# Altium schematic symbol library FPGA_Xilinx_Virtex7.SchLib: 34 symbols (part 4 of 26)
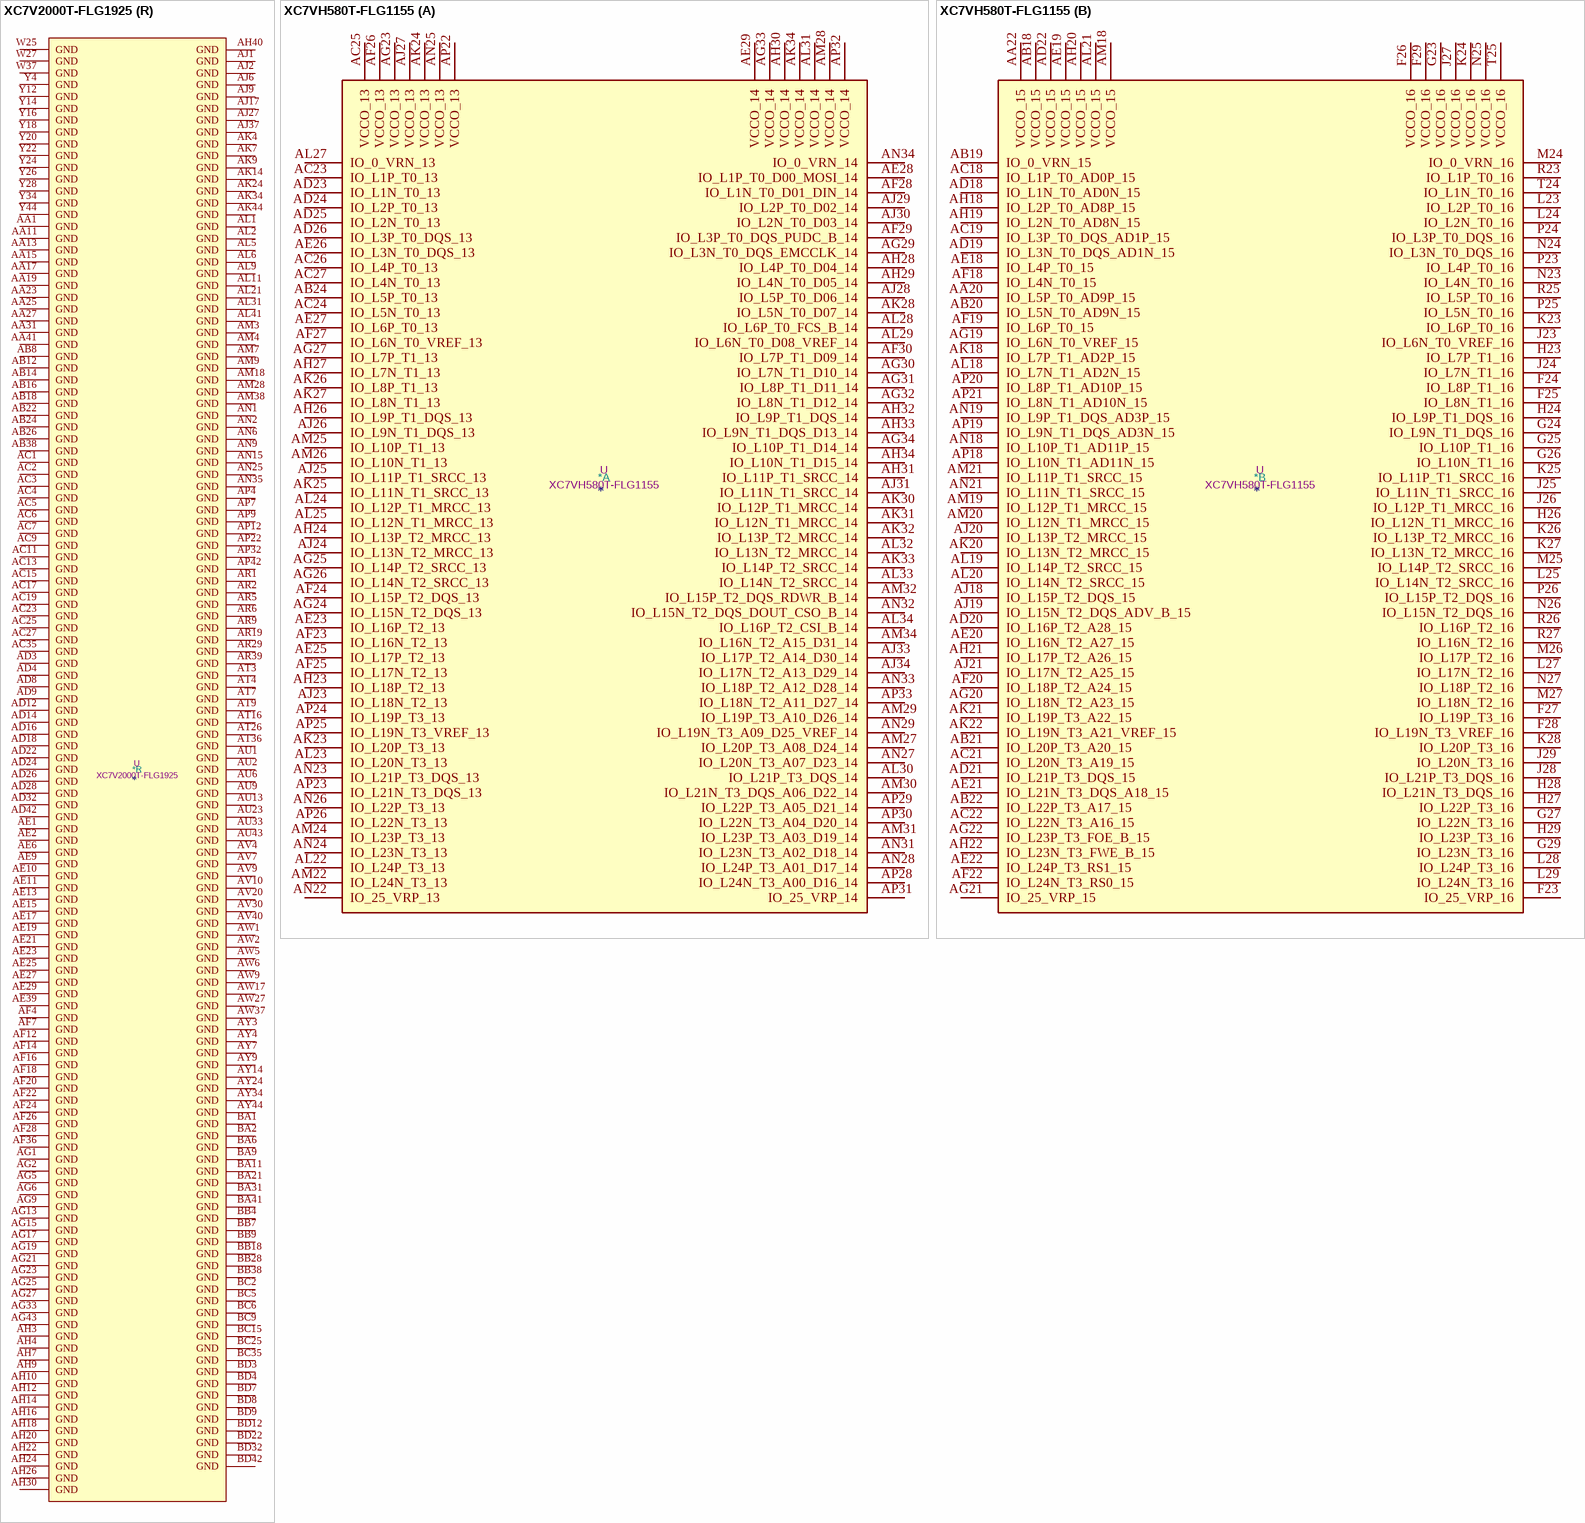
[diagram p175: symbols XC7V2000T-FLG1925 to XC7VH580T-FLG1155]

## XC7V2000T-FLG1925
designator *  value XC7V2000T-FLG1925  Reference: U
Virtex 7 T 2000 XC7V2000T-FLG1925; ki_keywords: FPGA; Description_: Virtex 7 T 2000 XC7V2000T-FLG1925
part A pins: AN34 IO_0_VRN_12, AN36 IO_L6P_T0_12, AN37 IO_L2P_T0_12, AN38 IO_L2N_T0_12, AN39 IO_L7P_T1_12, AN40 VCCO_12, AN41 IO_L9P_T1_DQS_12, AP34 IO_L3P_T0_DQS_12, AP35 IO_L3N_T0_DQS_12, AP36 IO_L6N_T0_VREF_12, AP37 VCCO_12, AP38 IO_L4P_T0_12, AP39 IO_L4N_T0_12, AP40 IO_L7N_T1_12, AP41 IO_L9N_T1_DQS_12, AP43 IO_L8P_T1_12, AP44 IO_L8N_T1_12, AR34 VCCO_12, AR35 IO_L5P_T0_12, AR36 IO_L5N_T0_12, AR37 IO_L1P_T0_12, AR38 IO_L1N_T0_12, AR40 IO_L11P_T1_SRCC_12, AR41 IO_L11N_T1_SRCC_12, AR42 IO_L12P_T1_MRCC_12, AR43 IO_L10P_T1_12, AR44 VCCO_12, AT34 IO_25_VRP_12, AT35 IO_L20P_T3_12, AT37 IO_L19P_T3_12, AT38 IO_L19N_T3_VREF_12, AT39 IO_L14P_T2_SRCC_12, AT40 IO_L14N_T2_SRCC_12, AT41 VCCO_12, AT42 IO_L12N_T1_MRCC_12, AT43 IO_L10N_T1_12, AT44 IO_L16P_T2_12, AU34 IO_L22P_T3_12, AU35 IO_L20N_T3_12, AU36 IO_L21P_T3_DQS_12, AU37 IO_L21N_T3_DQS_12, AU38 VCCO_12, AU39 IO_L13P_T2_MRCC_12, AU40 IO_L13N_T2_MRCC_12, AU41 IO_L15P_T2_DQS_12, AU42 IO_L17P_T2_12, AU44 IO_L16N_T2_12, AV34 IO_L22N_T3_12, AV35 VCCO_12, AV36 IO_L24P_T3_12, AV37 IO_L24N_T3_12, AV38 IO_L23P_T3_12, AV39 IO_L23N_T3_12, AV41 IO_L15N_T2_DQS_12, AV42 IO_L17N_T2_12, AV43 IO_L18P_T2_12, AV44 IO_L18N_T2_12, AW34 IO_25_VRP_11, AW35 IO_L20P_T3_11, AW36 IO_0_VRN_11, AW38 IO_L15P_T2_DQS_11, AW39 IO_L15N_T2_DQS_11, AW40 IO_L1P_T0_11, AW41 IO_L1N_T0_11, AW42 VCCO_11, AW43 IO_L3P_T0_DQS_11, AW44 IO_L3N_T0_DQS_11, AY35 IO_L20N_T3_11, AY36 IO_L18P_T2_11, AY37 IO_L18N_T2_11, AY38 IO_L13P_T2_MRCC_11, AY39 VCCO_11, AY40 IO_L12P_T1_MRCC_11, AY41 IO_L5P_T0_11, AY42 IO_L5N_T0_11, AY43 IO_L2P_T0_11, BA34 IO_L19P_T3_11, BA35 IO_L22P_T3_11, BA36 VCCO_11, BA37 IO_L14P_T2_SRCC_11, BA38 IO_L14N_T2_SRCC_11, BA39 IO_L13N_T2_MRCC_11, BA40 IO_L12N_T1_MRCC_11, BA42 IO_L6P_T0_11, BA43 IO_L2N_T0_11, BA44 IO_L4P_T0_11, BB34 IO_L19N_T3_VREF_11, BB35 IO_L22N_T3_11, BB36 IO_L24P_T3_11, BB37 IO_L16P_T2_11, BB39 IO_L11P_T1_SRCC_11, BB40 IO_L11N_T1_SRCC_11, BB41 IO_L7P_T1_11, BB42 IO_L6N_T0_VREF_11, BB43 VCCO_11, BB44 IO_L4N_T0_11, BC34 IO_L23P_T3_11, BC36 IO_L24N_T3_11, BC37 IO_L16N_T2_11, BC38 IO_L17P_T2_11, BC39 IO_L10P_T1_11, BC40 VCCO_11, BC41 IO_L7N_T1_11, BC42 IO_L9P_T1_DQS_11, BC43 IO_L9N_T1_DQS_11, BD34 IO_L23N_T3_11, BD35 IO_L21P_T3_DQS_11, BD36 IO_L21N_T3_DQS_11, BD37 VCCO_11, BD38 IO_L17N_T2_11, BD39 IO_L10N_T1_11, BD40 IO_L8P_T1_11, BD41 IO_L8N_T1_11
part B pins: AD41 IO_L13P_T2_MRCC_14, AD43 IO_L15P_T2_DQS_RDWR_B_14, AD44 IO_L15N_T2_DQS_DOUT_CSO_B_14, AE30 IO_L20P_T3_A08_D24_14, AE31 IO_L20N_T3_A07_D23_14, AE32 IO_L4P_T0_D04_14, AE33 IO_L4N_T0_D05_14, AE34 VCCO_14, AE35 IO_L6P_T0_FCS_B_14, AE36 IO_0_VRN_14, AE37 IO_L8P_T1_D11_14, AE38 IO_L8N_T1_D12_14, AE40 IO_L12P_T1_MRCC_14, AE41 IO_L13N_T2_MRCC_14, AE42 IO_L14P_T2_SRCC_14, AE43 IO_L17P_T2_A14_D30_14, AE44 VCCO_14, AF29 IO_L22P_T3_A05_D21_14, AF30 IO_L22N_T3_A04_D20_14, AF31 VCCO_14, AF32 IO_L5P_T0_D06_14, AF33 IO_L1P_T0_D00_MOSI_14, AF34 IO_L1N_T0_D01_DIN_14, AF35 IO_L6N_T0_D08_VREF_14, AF37 IO_L10P_T1_D14_14, AF38 IO_L10N_T1_D15_14, AF39 IO_L11P_T1_SRCC_14, AF40 IO_L12N_T1_MRCC_14, AF41 VCCO_14, AF42 IO_L14N_T2_SRCC_14, AF43 IO_L17N_T2_A13_D29_14, AF44 IO_L18P_T2_A12_D28_14, AG29 IO_L19P_T3_A10_D26_14, AG30 IO_L19N_T3_A09_D25_VREF_14, AG31 IO_L24P_T3_A01_D17_14, AG32 IO_L5N_T0_D07_14, AG34 IO_L2P_T0_D02_14, AG35 IO_L2N_T0_D03_14, AG36 IO_L3P_T0_DQS_PUDC_B_14, AG37 IO_L3N_T0_DQS_EMCCLK_14, AG38 VCCO_14, AG39 IO_L9P_T1_DQS_14, AG40 IO_L11N_T1_SRCC_14, AG41 IO_L7P_T1_D09_14, AG42 IO_L16P_T2_CSI_B_14, AG44 IO_L18N_T2_A11_D27_14, AH28 IO_L21P_T3_DQS_14, AH29 IO_L21N_T3_DQS_A06_D22_14, AH31 IO_L24N_T3_A00_D16_14, AH32 IO_L23P_T3_13, AH33 IO_L23N_T3_13, AH34 IO_0_VRN_13, AH35 VCCO_13, AH36 IO_L7P_T1_13, AH37 IO_L8P_T1_13, AH38 IO_L8N_T1_13, AH39 IO_L9N_T1_DQS_D13_14, AH41 IO_L7N_T1_D10_14, AH42 IO_L16N_T2_A15_D31_14, AH43 IO_L2P_T0_13, AH44 IO_L2N_T0_13, AJ28 IO_25_VRP_14, AJ29 IO_L23P_T3_A03_D19_14, AJ30 IO_L23N_T3_A02_D18_14, AJ31 IO_25_VRP_13, AJ32 VCCO_13, AJ33 IO_L19P_T3_13, AJ34 IO_L19N_T3_VREF_13, AJ35 IO_L20P_T3_13, AJ36 IO_L7N_T1_13, AJ38 IO_L10P_T1_13, AJ39 IO_L6P_T0_13, AJ40 IO_L6N_T0_VREF_13, AJ41 IO_L1P_T0_13, AJ42 VCCO_13, AJ43 IO_L4P_T0_13, AJ44 IO_L4N_T0_13, AK29 VCCO_14, AK33 IO_L21P_T3_DQS_13, AK35 IO_L20N_T3_13, AK36 IO_L12P_T1_MRCC_13, AK37 IO_L12N_T1_MRCC_13, AK38 IO_L10N_T1_13, AK39 VCCO_13, AK40 IO_L5P_T0_13, AK41 IO_L1N_T0_13, AK42 IO_L3P_T0_DQS_13, AK43 IO_L3N_T0_DQS_13, AL33 IO_L21N_T3_DQS_13, AL34 IO_L22P_T3_13, AL35 IO_L24P_T3_13, AL36 VCCO_13, AL37 IO_L11P_T1_SRCC_13, AL38 IO_L11N_T1_SRCC_13, AL39 IO_L14P_T2_SRCC_13, AL40 IO_L5N_T0_13, AL42 IO_L16P_T2_13, AL43 IO_L16N_T2_13, AL44 IO_L18P_T2_13, AM34 IO_L22N_T3_13, AM35 IO_L24N_T3_13, AM36 IO_L9P_T1_DQS_13, AM37 IO_L9N_T1_DQS_13, AM39 IO_L14N_T2_SRCC_13, AM40 IO_L13P_T2_MRCC_13, AM41 IO_L13N_T2_MRCC_13, AM42 IO_L15P_T2_DQS_13, AM43 VCCO_13, AM44 IO_L18N_T2_13, AN42 IO_L15N_T2_DQS_13, AN43 IO_L17P_T2_13, AN44 IO_L17N_T2_13
part C pins: AA29 IO_L21P_T3_DQS_15, AA30 IO_L21N_T3_DQS_A18_15, AA32 IO_L6P_T0_15, AA33 IO_L6N_T0_VREF_15, AA34 IO_L2N_T0_AD8N_15, AA35 IO_0_VRN_15, AA36 VCCO_15, AA37 IO_L8N_T1_AD10N_15, AA38 IO_L12P_T1_MRCC_15, AA39 IO_L12N_T1_MRCC_15, AA40 IO_L14N_T2_SRCC_15, AA42 IO_L16P_T2_A28_15, AA43 IO_L16N_T2_A27_15, AA44 IO_L18N_T2_A23_15, AB28 IO_25_VRP_15, AB29 IO_L19P_T3_A22_15, AB30 IO_L19N_T3_A21_VREF_15, AB31 IO_L22P_T3_A17_15, AB32 IO_L22N_T3_A16_15, AB33 VCCO_15, AB34 IO_L2P_T0_AD8P_15, AB35 IO_L4P_T0_15, AB36 IO_L4N_T0_15, AB37 IO_L8P_T1_AD10P_15, AB39 IO_L11N_T1_SRCC_15, AB40 IO_L14P_T2_SRCC_15, AB41 IO_L13N_T2_MRCC_15, AB42 IO_L15N_T2_DQS_ADV_B_15, AB43 VCCO_15, AB44 IO_L18P_T2_A24_15, AC29 IO_L23N_T3_FWE_B_15, AC30 VCCO_15, AC31 IO_L20P_T3_A20_15, AC32 IO_L20N_T3_A19_15, AC33 IO_L1P_T0_AD0P_15, AC34 IO_L1N_T0_AD0N_15, AC36 IO_L9P_T1_DQS_AD3P_15, AC37 IO_L9N_T1_DQS_AD3N_15, AC38 IO_L10N_T1_AD11N_15, AC39 IO_L11P_T1_SRCC_15, AC40 VCCO_15, AC41 IO_L13P_T2_MRCC_15, AC42 IO_L15P_T2_DQS_15, AC43 IO_L17P_T2_A26_15, AC44 IO_L17N_T2_A25_15, AD29 IO_L23P_T3_FOE_B_15, AD30 IO_L24P_T3_RS1_15, AD31 IO_L24N_T3_RS0_15, AD33 IO_L3P_T0_DQS_AD1P_15, AD34 IO_L3N_T0_DQS_AD1N_15, AD35 IO_L5P_T0_AD9P_15, AD36 IO_L5N_T0_AD9N_15, AD37 VCCO_15, AD38 IO_L10P_T1_AD11P_15, AD39 IO_L7P_T1_AD2P_15, AD40 IO_L7N_T1_AD2N_15, U29 IO_25_VRP_16, U30 IO_L20P_T3_16, U31 IO_L20N_T3_16, U32 IO_0_VRN_16, U34 IO_L2P_T0_16, U35 IO_L2N_T0_16, U36 IO_L4P_T0_16, U37 IO_L4N_T0_16, U38 VCCO_16, U39 IO_L9P_T1_DQS_16, U40 IO_L9N_T1_DQS_16, U41 IO_L15P_T2_DQS_16, U42 IO_L15N_T2_DQS_16, V29 IO_L24N_T3_16, V31 IO_L19P_T3_16, V32 IO_L19N_T3_VREF_16, V33 IO_L1P_T0_16, V34 IO_L1N_T0_16, V35 VCCO_16, V36 IO_L8P_T1_16, V37 IO_L8N_T1_16, V38 IO_L7P_T1_16, V39 IO_L7N_T1_16, V41 IO_L13P_T2_MRCC_16, V42 IO_L13N_T2_MRCC_16, V43 IO_L17P_T2_16, V44 IO_L17N_T2_16, W29 IO_L24P_T3_16, W30 IO_L22P_T3_16, W31 IO_L22N_T3_16, W32 VCCO_16, W33 IO_L3P_T0_DQS_16, W34 IO_L3N_T0_DQS_16, W35 IO_L6P_T0_16, W36 IO_L6N_T0_VREF_16, W38 IO_L12P_T1_MRCC_16, W39 IO_L12N_T1_MRCC_16, W40 IO_L11N_T1_SRCC_16, W41 IO_L14N_T2_SRCC_16, W42 VCCO_16, W43 IO_L18P_T2_16, W44 IO_L18N_T2_16, Y29 VCCO_16, Y30 IO_L23P_T3_16, Y31 IO_L23N_T3_16, Y32 IO_L21P_T3_DQS_16, Y33 IO_L21N_T3_DQS_16, Y35 IO_L5P_T0_16, Y36 IO_L5N_T0_16, Y37 IO_L10P_T1_16, Y38 IO_L10N_T1_16, Y39 VCCO_16, Y40 IO_L11P_T1_SRCC_16, Y41 IO_L14P_T2_SRCC_16, Y42 IO_L16P_T2_16, Y43 IO_L16N_T2_16
part D pins: A22 IO_L17N_T2_17, A23 IO_L17P_T2_17, A24 IO_L18N_T2_17, A25 IO_L17N_T2_18, A26 VCCO_18, A27 IO_L18P_T2_18, A28 IO_L18N_T2_18, B22 IO_L15N_T2_DQS_17, B23 VCCO_17, B24 IO_L18P_T2_17, B25 IO_L17P_T2_18, B26 IO_L16P_T2_18, B27 IO_L16N_T2_18, C22 IO_L15P_T2_DQS_17, C23 IO_L13N_T2_MRCC_17, C24 IO_L14N_T2_SRCC_17, C26 IO_L15N_T2_DQS_18, C27 IO_L14P_T2_SRCC_18, C28 IO_L14N_T2_SRCC_18, D23 IO_L13P_T2_MRCC_17, D24 IO_L14P_T2_SRCC_17, D25 IO_L16N_T2_17, D26 IO_L15P_T2_DQS_18, D27 VCCO_18, D28 IO_L13P_T2_MRCC_18, D29 IO_L13N_T2_MRCC_18, E22 IO_L11N_T1_SRCC_17, E23 IO_L12N_T1_MRCC_17, E24 VCCO_17, E25 IO_L16P_T2_17, E26 IO_L11P_T1_SRCC_18, E27 IO_L11N_T1_SRCC_18, E28 IO_L12N_T1_MRCC_18, F22 IO_L11P_T1_SRCC_17, F23 IO_L12P_T1_MRCC_17, F24 IO_L9N_T1_DQS_17, F25 IO_L10N_T1_17, F27 IO_L9N_T1_DQS_18, F28 IO_L12P_T1_MRCC_18, F29 IO_L7N_T1_18, G22 IO_L20N_T3_17, G24 IO_L9P_T1_DQS_17, G25 IO_L10P_T1_17, G26 IO_L10N_T1_18, G27 IO_L9P_T1_DQS_18, G28 VCCO_18, G29 IO_L7P_T1_18, H21 IO_L24N_T3_17, H22 IO_L20P_T3_17, H23 IO_L7N_T1_17, H24 IO_L8N_T1_17, H25 VCCO_18, H26 IO_L10P_T1_18, H27 IO_L8P_T1_18, H28 IO_L8N_T1_18, J21 IO_L24P_T3_17, J22 VCCO_17, J23 IO_L7P_T1_17, J24 IO_L8P_T1_17, J25 IO_25_VRP_18, J26 IO_L23N_T3_18, J28 IO_L22N_T3_18, K21 IO_L23N_T3_17, K22 IO_L23P_T3_17, K23 IO_L19N_T3_VREF_17, K25 IO_L21N_T3_DQS_18, K26 IO_L23P_T3_18, K27 IO_L20N_T3_18, K28 IO_L22P_T3_18, L22 IO_L22N_T3_17, L23 IO_L19P_T3_17, L24 IO_L21N_T3_DQS_17, L25 IO_L21P_T3_DQS_18, L26 VCCO_18, L27 IO_L20P_T3_18, L28 IO_L19N_T3_VREF_18, M21 IO_25_VRP_17, M22 IO_L22P_T3_17, M23 VCCO_17, M24 IO_L21P_T3_DQS_17, M25 IO_L24P_T3_18, M26 IO_L24N_T3_18, M27 IO_L19P_T3_18, N21 IO_L3N_T0_DQS_17, N22 IO_L3P_T0_DQS_17, N23 IO_L5N_T0_17, N24 IO_L1N_T0_17, N26 IO_L4P_T0_18, N27 IO_L4N_T0_18, N28 IO_L5N_T0_18, P21 IO_L6N_T0_VREF_17, P23 IO_L5P_T0_17, P24 IO_L1P_T0_17, P25 IO_L6N_T0_VREF_18, P26 IO_L2N_T0_18, P27 VCCO_18, P28 IO_L5P_T0_18, R21 IO_L6P_T0_17, R22 IO_L4N_T0_17, R23 IO_L2N_T0_17, R24 VCCO_17, R25 IO_L6P_T0_18, R26 IO_L2P_T0_18, R27 IO_L3N_T0_DQS_18, R28 IO_L1N_T0_18, T21 VCCO_17, T22 IO_L4P_T0_17, T23 IO_L2P_T0_17, T24 IO_0_VRN_17, T25 IO_0_VRN_18, T27 IO_L3P_T0_DQS_18, T28 IO_L1P_T0_18
part E pins: A29 IO_L17P_T2_19, A30 IO_L17N_T2_19, A32 IO_L15P_T2_DQS_19, A33 IO_L15N_T2_DQS_19, B29 IO_L18N_T2_19, B30 IO_L16P_T2_19, B31 IO_L16N_T2_19, B32 IO_L9N_T1_DQS_19, B33 VCCO_19, C29 IO_L18P_T2_19, C30 VCCO_19, C31 IO_L13N_T2_MRCC_19, C32 IO_L9P_T1_DQS_19, C33 IO_L7N_T1_19, D30 IO_L13P_T2_MRCC_19, D31 IO_L12N_T1_MRCC_19, D33 IO_L7P_T1_19, E30 IO_L14N_T2_SRCC_19, E31 IO_L12P_T1_MRCC_19, E32 IO_L11N_T1_SRCC_19, E33 IO_L10N_T1_19, F30 IO_L14P_T2_SRCC_19, F31 VCCO_19, F32 IO_L11P_T1_SRCC_19, F33 IO_L10P_T1_19, G30 IO_L24N_T3_19, G31 IO_L8P_T1_19, G32 IO_L8N_T1_19, H29 IO_L24P_T3_19, H31 IO_L19P_T3_19, H32 IO_L19N_T3_VREF_19, H33 IO_L20N_T3_19, J29 IO_25_VRP_19, J30 IO_L21N_T3_DQS_19, J31 IO_L22N_T3_19, J32 VCCO_19, J33 IO_L20P_T3_19, K29 VCCO_19, K30 IO_L21P_T3_DQS_19, K31 IO_L22P_T3_19, K32 IO_L23P_T3_19, K33 IO_L23N_T3_19, L29 IO_L5P_T0_19, L30 IO_L5N_T0_19, L32 IO_L2P_T0_19, L33 IO_L2N_T0_19, M29 IO_L3N_T0_DQS_19, M30 IO_L1P_T0_19, M31 IO_L1N_T0_19, M32 IO_L6N_T0_VREF_19, M33 VCCO_19, M39 IO_L6P_T0_20, M40 IO_L6N_T0_VREF_20, M41 IO_L8N_T1_20, N29 IO_L3P_T0_DQS_19, N30 VCCO_19, N31 IO_L6P_T0_19, N32 IO_L4P_T0_19, N33 IO_L4N_T0_19, N34 IO_0_VRN_20, N36 IO_L2P_T0_20, N37 IO_L2N_T0_20, N38 IO_L4P_T0_20, N39 IO_L4N_T0_20, N40 VCCO_20, N41 IO_L8P_T1_20, N42 IO_L10N_T1_20, N43 IO_L15N_T2_DQS_20, N44 IO_L17N_T2_20, P29 IO_0_VRN_19, P30 IO_L24P_T3_20, P31 IO_L24N_T3_20, P33 IO_L20P_T3_20, P34 IO_L20N_T3_20, P35 IO_L1P_T0_20, P36 IO_L1N_T0_20, P37 VCCO_20, P38 IO_L12N_T1_MRCC_20, P39 IO_L11P_T1_SRCC_20, P40 IO_L11N_T1_SRCC_20, P41 IO_L10P_T1_20, P43 IO_L15P_T2_DQS_20, P44 IO_L17P_T2_20, R30 IO_L21P_T3_DQS_20, R31 IO_L21N_T3_DQS_20, R32 IO_L22P_T3_20, R33 IO_L22N_T3_20, R34 VCCO_20, R35 IO_L3N_T0_DQS_20, R36 IO_L5P_T0_20, R37 IO_L5N_T0_20, R38 IO_L12P_T1_MRCC_20, R40 IO_L13P_T2_MRCC_20, R41 IO_L13N_T2_MRCC_20, R42 IO_L14N_T2_SRCC_20, R43 IO_L16N_T2_20, R44 VCCO_20, T29 IO_L23P_T3_20, T30 IO_L23N_T3_20, T31 VCCO_20, T32 IO_25_VRP_20, T33 IO_L19P_T3_20, T34 IO_L19N_T3_VREF_20, T35 IO_L3P_T0_DQS_20, T37 IO_L9P_T1_DQS_20, T38 IO_L9N_T1_DQS_20, T39 IO_L7P_T1_20, T40 IO_L7N_T1_20, T41 VCCO_20, T42 IO_L14P_T2_SRCC_20, T43 IO_L16P_T2_20, T44 IO_L18N_T2_20, U44 IO_L18P_T2_20
part F pins: A34 IO_L4N_T0_22, A35 IO_L1N_T0_22, A36 VCCO_22, A37 IO_L8P_T1_22, A38 IO_L8N_T1_22, A39 IO_L18P_T2_22, A40 IO_L18N_T2_22, A42 IO_L15N_T2_DQS_22, B34 IO_L4P_T0_22, B35 IO_L1P_T0_22, B36 IO_L5N_T0_22, B37 IO_L10N_T1_22, B39 IO_L16P_T2_22, B40 IO_L16N_T2_22, B41 IO_L15P_T2_DQS_22, B42 IO_L17N_T2_22, B43 VCCO_22, C34 IO_L2N_T0_22, C36 IO_L5P_T0_22, C37 IO_L10P_T1_22, C38 IO_L12P_T1_MRCC_22, C39 IO_L12N_T1_MRCC_22, C40 VCCO_22, C41 IO_L13N_T2_MRCC_22, C42 IO_L17P_T2_22, C43 IO_L22P_T3_22, C44 IO_L22N_T3_22, D34 IO_L2P_T0_22, D35 IO_L3P_T0_DQS_22, D36 IO_L3N_T0_DQS_22, D37 VCCO_22, D38 IO_L11N_T1_SRCC_22, D39 IO_L14P_T2_SRCC_22, D40 IO_L14N_T2_SRCC_22, D41 IO_L13P_T2_MRCC_22, D43 IO_L21P_T3_DQS_22, D44 IO_L21N_T3_DQS_22, E34 VCCO_22, E35 IO_L6N_T0_VREF_22, E36 IO_L7P_T1_22, E37 IO_L7N_T1_22, E38 IO_L11P_T1_SRCC_22, E40 IO_L19N_T3_VREF_22, E41 IO_L20P_T3_22, E42 IO_L20N_T3_22, E43 IO_L24N_T3_22, E44 VCCO_22, F34 IO_0_VRN_22, F35 IO_L6P_T0_22, F37 IO_25_VRP_22, F38 IO_L9P_T1_DQS_22, F39 IO_L9N_T1_DQS_22, F40 IO_L19P_T3_22, F41 VCCO_22, F42 IO_L24P_T3_22, F43 IO_L23P_T3_22, F44 IO_L23N_T3_22, G34 IO_L2P_T0_21, G35 IO_L2N_T0_21, G36 IO_L4P_T0_21, G37 IO_L4N_T0_21, G38 VCCO_21, G39 IO_L1P_T0_21, G40 IO_L1N_T0_21, G41 IO_L7P_T1_21, G42 IO_L7N_T1_21, G44 IO_L16N_T2_21, H34 IO_0_VRN_21, H35 VCCO_21, H36 IO_L6P_T0_21, H37 IO_L6N_T0_VREF_21, H38 IO_L5N_T0_21, H39 IO_L3N_T0_DQS_21, H41 IO_L11N_T1_SRCC_21, H42 IO_L9P_T1_DQS_21, H43 IO_L9N_T1_DQS_21, H44 IO_L16P_T2_21, J34 IO_L22P_T3_21, J35 IO_L22N_T3_21, J36 IO_L19N_T3_VREF_21, J38 IO_L5P_T0_21, J39 IO_L3P_T0_DQS_21, J40 IO_L12N_T1_MRCC_21, J41 IO_L11P_T1_SRCC_21, J42 VCCO_21, J43 IO_L18P_T2_21, J44 IO_L18N_T2_21, K35 IO_25_VRP_21, K36 IO_L19P_T3_21, K37 IO_L20N_T3_21, K38 IO_L10N_T1_21, K39 VCCO_21, K40 IO_L12P_T1_MRCC_21, K41 IO_L14P_T2_SRCC_21, K42 IO_L14N_T2_SRCC_21, K43 IO_L15N_T2_DQS_21, L34 IO_L23P_T3_21, L35 IO_L23N_T3_21, L36 VCCO_21, L37 IO_L20P_T3_21, L38 IO_L10P_T1_21, L39 IO_L8P_T1_21, L40 IO_L8N_T1_21, L42 IO_L13N_T2_MRCC_21, L43 IO_L15P_T2_DQS_21, L44 IO_L17N_T2_21, M34 IO_L24P_T3_21, M35 IO_L24N_T3_21, M36 IO_L21P_T3_DQS_21, M37 IO_L21N_T3_DQS_21, M42 IO_L13P_T2_MRCC_21, M43 VCCO_21, M44 IO_L17P_T2_21
part G pins: AJ10 IO_L2N_T0_31, AJ11 IO_L2P_T0_31, AJ12 VCCO_31, AJ13 IO_0_VRN_31, AJ14 IO_25_VRP_32, AJ15 IO_L23N_T3_32, AJ16 IO_L23P_T3_32, AK10 IO_L6N_T0_VREF_31, AK11 IO_L6P_T0_31, AK12 IO_L4N_T0_31, AK13 IO_L4P_T0_31, AK15 IO_L21N_T3_DQS_32, AK16 IO_L21P_T3_DQS_32, AL10 IO_L5P_T0_31, AL12 IO_L3N_T0_DQS_31, AL13 IO_L3P_T0_DQS_31, AL14 IO_L24N_T3_32, AL15 IO_L24P_T3_32, AL16 VCCO_32, AM10 IO_L5N_T0_31, AM11 IO_L1N_T0_31, AM12 IO_L1P_T0_31, AM13 VCCO_31, AM14 IO_L22N_T3_32, AM15 IO_L22P_T3_32, AM16 IO_L19N_T3_VREF_32, AM17 IO_L19P_T3_32, AN10 VCCO_31, AN11 IO_L9N_T1_DQS_31, AN12 IO_L9P_T1_DQS_31, AN13 IO_L10P_T1_31, AN14 IO_L20P_T3_32, AN16 IO_L17N_T2_32, AN17 IO_L17P_T2_32, AP10 IO_L7P_T1_31, AP11 IO_L11P_T1_SRCC_31, AP13 IO_L10N_T1_31, AP14 IO_L20N_T3_32, AP15 IO_L15N_T2_DQS_32, AP16 IO_L15P_T2_DQS_32, AP17 VCCO_32, AR10 IO_L7N_T1_31, AR11 IO_L11N_T1_SRCC_31, AR12 IO_L12P_T1_MRCC_31, AR13 IO_L8P_T1_31, AR14 VCCO_32, AR15 IO_L18N_T2_32, AR16 IO_L18P_T2_32, AR17 IO_L16P_T2_32, AT10 IO_L15P_T2_DQS_31, AT11 VCCO_31, AT12 IO_L12N_T1_MRCC_31, AT13 IO_L8N_T1_31, AT14 IO_L10P_T1_32, AT15 IO_L13P_T2_MRCC_32, AT17 IO_L16N_T2_32, AU10 IO_L15N_T2_DQS_31, AU11 IO_L13N_T2_MRCC_31, AU12 IO_L13P_T2_MRCC_31, AU14 IO_L10N_T1_32, AU15 IO_L13N_T2_MRCC_32, AU16 IO_L14N_T2_SRCC_32, AU17 IO_L14P_T2_SRCC_32, AV11 IO_L14N_T2_SRCC_31, AV12 IO_L14P_T2_SRCC_31, AV13 IO_25_VRP_31, AV14 IO_L8P_T1_32, AV15 VCCO_32, AV16 IO_L11P_T1_SRCC_32, AV17 IO_0_VRN_32, AW10 IO_L17P_T2_31, AW11 IO_L16P_T2_31, AW12 VCCO_31, AW13 IO_L18P_T2_31, AW14 IO_L8N_T1_32, AW15 IO_L11N_T1_SRCC_32, AW16 IO_L12P_T1_MRCC_32, AY10 IO_L17N_T2_31, AY11 IO_L16N_T2_31, AY12 IO_L21P_T3_DQS_31, AY13 IO_L18N_T2_31, AY15 IO_L9P_T1_DQS_32, AY16 IO_L12N_T1_MRCC_32, AY17 IO_L7P_T1_32, BA10 IO_L19P_T3_31, BA12 IO_L21N_T3_DQS_31, BA13 IO_L6N_T0_VREF_32, BA14 IO_L6P_T0_32, BA15 IO_L9N_T1_DQS_32, BA16 VCCO_32, BA17 IO_L7N_T1_32, BB10 IO_L19N_T3_VREF_31, BB11 IO_L20P_T3_31, BB12 IO_L23P_T3_31, BB13 VCCO_31, BB14 IO_L4N_T0_32, BB15 IO_L4P_T0_32, BB16 IO_L1N_T0_32, BB17 IO_L1P_T0_32, BC10 VCCO_31, BC11 IO_L20N_T3_31, BC12 IO_L23N_T3_31, BC13 IO_L24P_T3_31, BC14 IO_L2P_T0_32, BC16 IO_L3N_T0_DQS_32, BC17 IO_L3P_T0_DQS_32, BD10 IO_L22N_T3_31, BD11 IO_L22P_T3_31, BD13 IO_L24N_T3_31, BD14 IO_L2N_T0_32, BD15 IO_L5N_T0_32, BD16 IO_L5P_T0_32, BD17 VCCO_32
part H pins: AJ18 IO_25_VRP_33, AJ19 IO_L23N_T3_33, AJ20 IO_L23P_T3_33, AJ21 IO_25_VRP_34, AJ22 VCCO_34, AJ23 IO_L24P_T3_34, AJ24 IO_L24N_T3_34, AK17 IO_L21P_T3_DQS_33, AK18 IO_L19P_T3_33, AK19 VCCO_33, AK20 IO_L22P_T3_33, AK21 IO_L20P_T3_34, AK22 IO_L20N_T3_34, AK23 IO_L22P_T3_34, AL17 IO_L21N_T3_DQS_33, AL18 IO_L19N_T3_VREF_33, AL19 IO_L24P_T3_33, AL20 IO_L22N_T3_33, AL22 IO_L23P_T3_34, AL23 IO_L22N_T3_34, AL24 IO_L19P_T3_34, AM19 IO_L24N_T3_33, AM20 IO_L20P_T3_33, AM21 IO_L21P_T3_DQS_34, AM22 IO_L23N_T3_34, AM23 VCCO_34, AM24 IO_L19N_T3_VREF_34, AN18 IO_L16P_T2_33, AN19 IO_L20N_T3_33, AN20 VCCO_33, AN21 IO_L21N_T3_DQS_34, AN22 IO_L18P_T2_34, AN23 IO_L18N_T2_34, AN24 IO_L17P_T2_34, AP18 IO_L16N_T2_33, AP19 IO_L17N_T2_33, AP20 IO_L17P_T2_33, AP21 IO_L15P_T2_DQS_33, AP23 IO_L14P_T2_SRCC_34, AP24 IO_L17N_T2_34, AR18 IO_L18P_T2_33, AR20 IO_L13P_T2_MRCC_33, AR21 IO_L15N_T2_DQS_33, AR22 IO_L15P_T2_DQS_34, AR23 IO_L14N_T2_SRCC_34, AR24 VCCO_34, AR25 IO_L16P_T2_34, AT18 IO_L18N_T2_33, AT19 IO_L11P_T1_SRCC_33, AT20 IO_L13N_T2_MRCC_33, AT21 VCCO_33, AT22 IO_L15N_T2_DQS_34, AT23 IO_L13P_T2_MRCC_34, AT24 IO_L13N_T2_MRCC_34, AT25 IO_L16N_T2_34, AU18 VCCO_33, AU19 IO_L11N_T1_SRCC_33, AU20 IO_L14N_T2_SRCC_33, AU21 IO_L14P_T2_SRCC_33, AU22 IO_L9P_T1_DQS_34, AU24 IO_L11P_T1_SRCC_34, AU25 IO_L11N_T1_SRCC_34, AV18 IO_L12N_T1_MRCC_33, AV19 IO_L12P_T1_MRCC_33, AV21 IO_0_VRN_33, AV22 IO_L9N_T1_DQS_34, AV23 IO_L7P_T1_34, AV24 IO_L12P_T1_MRCC_34, AV25 VCCO_34, AW18 IO_L10N_T1_33, AW19 IO_L10P_T1_33, AW20 IO_L9P_T1_DQS_33, AW21 IO_L7P_T1_33, AW22 VCCO_34, AW23 IO_L7N_T1_34, AW24 IO_L12N_T1_MRCC_34, AW25 IO_0_VRN_34, AY18 IO_L8P_T1_33, AY19 VCCO_33, AY20 IO_L9N_T1_DQS_33, AY21 IO_L7N_T1_33, AY22 IO_L10P_T1_34, AY23 IO_L10N_T1_34, AY25 IO_L8P_T1_34, BA18 IO_L8N_T1_33, BA19 IO_L6P_T0_33, BA20 IO_L2P_T0_33, BA22 IO_L6P_T0_34, BA23 IO_L6N_T0_VREF_34, BA24 IO_L2P_T0_34, BA25 IO_L8N_T1_34, BB19 IO_L6N_T0_VREF_33, BB20 IO_L2N_T0_33, BB21 IO_L1P_T0_33, BB22 IO_L4P_T0_34, BB23 VCCO_34, BB24 IO_L1P_T0_34, BB25 IO_L2N_T0_34, BC18 IO_L4P_T0_33, BC19 IO_L5P_T0_33, BC20 VCCO_33, BC21 IO_L1N_T0_33, BC22 IO_L4N_T0_34, BC23 IO_L5P_T0_34, BC24 IO_L1N_T0_34, BD18 IO_L4N_T0_33, BD19 IO_L5N_T0_33, BD20 IO_L3N_T0_DQS_33, BD21 IO_L3P_T0_DQS_33, BD23 IO_L5N_T0_34, BD24 IO_L3P_T0_DQS_34, BD25 IO_L3N_T0_DQS_34
part I pins: AJ25 IO_L24P_T3_35, AJ26 IO_L22P_T3_35, AK25 IO_L24N_T3_35, AK26 IO_L22N_T3_35, AK27 IO_L20P_T3_35, AK28 IO_25_VRP_35, AK30 IO_L21P_T3_DQS_36, AK31 IO_L21N_T3_DQS_36, AK32 IO_25_VRP_36, AL25 IO_L21P_T3_DQS_35, AL26 VCCO_35, AL27 IO_L23P_T3_35, AL28 IO_L20N_T3_35, AL29 IO_L23P_T3_36, AL30 IO_L23N_T3_36, AL32 IO_L19P_T3_36, AM25 IO_L21N_T3_DQS_35, AM26 IO_L19P_T3_35, AM27 IO_L23N_T3_35, AM29 IO_L24P_T3_36, AM30 IO_L22P_T3_36, AM31 IO_L22N_T3_36, AM32 IO_L19N_T3_VREF_36, AM33 VCCO_36, AN26 IO_L19N_T3_VREF_35, AN27 IO_L18P_T2_35, AN28 IO_L18N_T2_35, AN29 IO_L24N_T3_36, AN30 VCCO_36, AN31 IO_L20P_T3_36, AN32 IO_L20N_T3_36, AN33 IO_L16P_T2_36, AP25 IO_L17P_T2_35, AP26 IO_L17N_T2_35, AP27 VCCO_35, AP28 IO_L15P_T2_DQS_35, AP29 IO_L17P_T2_36, AP30 IO_L17N_T2_36, AP31 IO_L13P_T2_MRCC_36, AP33 IO_L16N_T2_36, AR26 IO_L13P_T2_MRCC_35, AR27 IO_L13N_T2_MRCC_35, AR28 IO_L15N_T2_DQS_35, AR30 IO_L18P_T2_36, AR31 IO_L13N_T2_MRCC_36, AR32 IO_L14P_T2_SRCC_36, AR33 IO_L15P_T2_DQS_36, AT27 IO_L14P_T2_SRCC_35, AT28 IO_L14N_T2_SRCC_35, AT29 IO_L16P_T2_35, AT30 IO_L18N_T2_36, AT31 VCCO_36, AT32 IO_L14N_T2_SRCC_36, AT33 IO_L15N_T2_DQS_36, AU26 IO_L12P_T1_MRCC_35, AU27 IO_L12N_T1_MRCC_35, AU28 VCCO_35, AU29 IO_L16N_T2_35, AU30 IO_L12P_T1_MRCC_36, AU31 IO_L12N_T1_MRCC_36, AU32 IO_L11P_T1_SRCC_36, AV26 IO_L10P_T1_AD15P_35, AV27 IO_L11P_T1_SRCC_35, AV28 IO_L11N_T1_SRCC_35, AV29 IO_0_VRN_35, AV31 IO_L10P_T1_36, AV32 IO_L11N_T1_SRCC_36, AV33 IO_0_VRN_36, AW26 IO_L10N_T1_AD15N_35, AW28 IO_L9P_T1_DQS_AD7P_35, AW29 IO_L9N_T1_DQS_AD7N_35, AW30 IO_L8P_T1_36, AW31 IO_L10N_T1_36, AW32 VCCO_36, AW33 IO_L7P_T1_36, AY26 IO_L8P_T1_AD14P_35, AY27 IO_L8N_T1_AD14N_35, AY28 IO_L7P_T1_AD6P_35, AY29 VCCO_35, AY30 IO_L8N_T1_36, AY31 IO_L9P_T1_DQS_36, AY32 IO_L9N_T1_DQS_36, AY33 IO_L7N_T1_36, BA26 VCCO_35, BA27 IO_L5P_T0_AD13P_35, BA28 IO_L5N_T0_AD13N_35, BA29 IO_L7N_T1_AD6N_35, BA30 IO_L6P_T0_36, BA32 IO_L5P_T0_36, BA33 IO_L5N_T0_36, BB26 IO_L3P_T0_DQS_AD5P_35, BB27 IO_L3N_T0_DQS_AD5N_35, BB29 IO_L2P_T0_AD12P_35, BB30 IO_L6N_T0_VREF_36, BB31 IO_L3P_T0_DQS_36, BB32 IO_L3N_T0_DQS_36, BB33 VCCO_36, BC26 IO_L1P_T0_AD4P_35, BC27 IO_L6P_T0_35, BC28 IO_L6N_T0_VREF_35, BC29 IO_L2N_T0_AD12N_35, BC30 VCCO_36, BC31 IO_L2P_T0_36, BC32 IO_L2N_T0_36, BC33 IO_L1P_T0_36, BD26 IO_L1N_T0_AD4N_35, BD27 VCCO_35, BD28 IO_L4P_T0_35, BD29 IO_L4N_T0_35, BD30 IO_L4P_T0_36, BD31 IO_L4N_T0_36, BD33 IO_L1N_T0_36
part J pins: AA2 IO_L18N_T2_37, AA3 IO_L18P_T2_37, AA4 IO_L17N_T2_37, AA5 IO_L17P_T2_37, AA6 VCCO_37, AA7 IO_L22N_T3_37, AA8 IO_L22P_T3_37, AA9 IO_L20N_T3_37, AA10 IO_L20P_T3_37, J1 IO_L9N_T1_DQS_38, J2 VCCO_38, J3 IO_L10N_T1_38, J4 IO_L8N_T1_38, J5 IO_L8P_T1_38, K1 IO_L9P_T1_DQS_38, K2 IO_L7N_T1_38, K3 IO_L10P_T1_38, K5 IO_L4N_T0_38, K6 IO_L2N_T0_38, K7 IO_L2P_T0_38, K8 IO_L1N_T0_38, L2 IO_L7P_T1_38, L3 IO_L12N_T1_MRCC_38, L4 IO_L12P_T1_MRCC_38, L5 IO_L4P_T0_38, L6 VCCO_38, L7 IO_L6N_T0_VREF_38, L8 IO_L6P_T0_38, L9 IO_L1P_T0_38, L10 IO_0_VRN_38, M1 IO_L15N_T2_DQS_38, M2 IO_L15P_T2_DQS_38, M3 VCCO_38, M4 IO_L11N_T1_SRCC_38, M5 IO_L11P_T1_SRCC_38, M6 IO_L3N_T0_DQS_38, M7 IO_L3P_T0_DQS_38, M9 IO_L5N_T0_38, M10 IO_L5P_T0_38, N1 IO_L17N_T2_38, N2 IO_L17P_T2_38, N3 IO_L13N_T2_MRCC_38, N4 IO_L13P_T2_MRCC_38, N6 IO_L20N_T3_38, N7 IO_L21N_T3_DQS_38, N8 IO_L19N_T3_VREF_38, N9 IO_L19P_T3_38, N10 VCCO_38, P1 IO_L16N_T2_38, P3 IO_L14N_T2_SRCC_38, P4 IO_L14P_T2_SRCC_38, P5 IO_L22N_T3_38, P6 IO_L20P_T3_38, P7 VCCO_38, P8 IO_L21P_T3_DQS_38, P9 IO_L23N_T3_38, P10 IO_L23P_T3_38, R1 IO_L16P_T2_38, R2 IO_L18N_T2_38, R3 IO_L18P_T2_38, R4 VCCO_38, R5 IO_L22P_T3_38, R6 IO_L24N_T3_38, R7 IO_L24P_T3_38, R8 IO_L2N_T0_37, R10 IO_25_VRP_38, T1 VCCO_37, T2 IO_L10N_T1_37, T3 IO_L10P_T1_37, T4 IO_L8N_T1_37, T5 IO_L8P_T1_37, T7 IO_L4N_T0_37, T8 IO_L4P_T0_37, T9 IO_L2P_T0_37, T10 IO_0_VRN_37, U1 IO_L7N_T1_37, U2 IO_L7P_T1_37, U4 IO_L12N_T1_MRCC_37, U5 IO_L12P_T1_MRCC_37, U6 IO_L1N_T0_37, U7 IO_L1P_T0_37, U8 VCCO_37, U9 IO_L6N_T0_VREF_37, U10 IO_L6P_T0_37, V1 IO_L9N_T1_DQS_37, V2 IO_L9P_T1_DQS_37, V3 IO_L11N_T1_SRCC_37, V4 IO_L11P_T1_SRCC_37, V5 VCCO_37, V6 IO_L21N_T3_DQS_37, V7 IO_L3N_T0_DQS_37, V8 IO_L3P_T0_DQS_37, V9 IO_L5N_T0_37, V10 IO_L5P_T0_37, W1 IO_L16N_T2_37, W2 VCCO_37, W3 IO_L13N_T2_MRCC_37, W4 IO_L13P_T2_MRCC_37, W5 IO_L14N_T2_SRCC_37, W6 IO_L21P_T3_DQS_37, W8 IO_L23N_T3_37, W9 IO_L19N_T3_VREF_37, W10 IO_L19P_T3_37, Y1 IO_L16P_T2_37, Y2 IO_L15N_T2_DQS_37, Y3 IO_L15P_T2_DQS_37, Y5 IO_L14P_T2_SRCC_37, Y6 IO_L24N_T3_37, Y7 IO_L24P_T3_37, Y8 IO_L23P_T3_37, Y9 VCCO_37, Y10 IO_25_VRP_37
part K pins: A3 IO_L18N_T2_39, A4 IO_L16N_T2_39, A5 IO_L16P_T2_39, A6 VCCO_39, A7 IO_L10N_T1_39, A18 IO_L7N_T1_40, A19 IO_L7P_T1_40, A20 IO_L8N_T1_40, B2 IO_L15N_T2_DQS_39, B3 VCCO_39, B4 IO_L18P_T2_39, B5 IO_L9N_T1_DQS_39, B6 IO_L9P_T1_DQS_39, B7 IO_L10P_T1_39, B19 IO_L9N_T1_DQS_40, B20 IO_L8P_T1_40, B21 IO_L10N_T1_40, C1 IO_L17N_T2_39, C2 IO_L15P_T2_DQS_39, C3 IO_L13N_T2_MRCC_39, C4 IO_L14N_T2_SRCC_39, C6 IO_L7N_T1_39, C7 IO_L7P_T1_39, C8 IO_L8N_T1_39, C18 IO_L11N_T1_SRCC_40, C19 IO_L9P_T1_DQS_40, C20 VCCO_40, C21 IO_L10P_T1_40, D1 IO_L17P_T2_39, D3 IO_L13P_T2_MRCC_39, D4 IO_L14P_T2_SRCC_39, D5 IO_L11N_T1_SRCC_39, D6 IO_L12N_T1_MRCC_39, D7 VCCO_39, D8 IO_L8P_T1_39, D18 IO_L11P_T1_SRCC_40, D19 IO_L12N_T1_MRCC_40, D20 IO_L12P_T1_MRCC_40, D21 IO_L15N_T2_DQS_40, E1 IO_L23N_T3_39, E2 IO_L23P_T3_39, E3 IO_L21N_T3_DQS_39, E4 VCCO_39, E5 IO_L11P_T1_SRCC_39, E6 IO_L12P_T1_MRCC_39, E7 IO_L3N_T0_DQS_39, E8 IO_L1N_T0_39, E18 IO_L18N_T2_40, E20 IO_L14N_T2_SRCC_40, E21 IO_L15P_T2_DQS_40, F1 VCCO_39, F2 IO_L22N_T3_39, F3 IO_L21P_T3_DQS_39, F4 IO_L19N_T3_VREF_39, F5 IO_L5N_T0_39, F7 IO_L3P_T0_DQS_39, F8 IO_L1P_T0_39, F18 IO_L18P_T2_40, F19 IO_L13N_T2_MRCC_40, F20 IO_L14P_T2_SRCC_40, F21 VCCO_40, G1 IO_L24N_T3_39, G2 IO_L22P_T3_39, G4 IO_L19P_T3_39, G5 IO_L5P_T0_39, G6 IO_L4N_T0_39, G7 IO_L4P_T0_39, G8 VCCO_39, G18 VCCO_40, G19 IO_L13P_T2_MRCC_40, G20 IO_L17N_T2_40, G21 IO_L17P_T2_40, H1 IO_L24P_T3_39, H2 IO_L20N_T3_39, H3 IO_L20P_T3_39, H4 IO_25_VRP_39, H5 VCCO_39, H6 IO_L6N_T0_VREF_39, H7 IO_L2N_T0_39, H8 IO_L2P_T0_39, H18 IO_L3N_T0_DQS_40, H19 IO_L5N_T0_40, J6 IO_L6P_T0_39, J8 IO_0_VRN_39, J18 IO_L3P_T0_DQS_40, J19 IO_L5P_T0_40, J20 IO_L16N_T2_40, K17 IO_L1N_T0_40, K18 IO_L2N_T0_40, K19 VCCO_40, K20 IO_L16P_T2_40, L17 IO_L1P_T0_40, L18 IO_L2P_T0_40, L19 IO_L6N_T0_VREF_40, L20 IO_L4N_T0_40, M17 IO_0_VRN_40, M19 IO_L6P_T0_40, M20 IO_L4P_T0_40, N17 IO_25_VRP_40, N18 IO_L24N_T3_40, N19 IO_L19N_T3_VREF_40, N20 VCCO_40, P17 VCCO_40, P18 IO_L24P_T3_40, P19 IO_L19P_T3_40, P20 IO_L20N_T3_40, R17 IO_L23N_T3_40, R18 IO_L22N_T3_40, R20 IO_L20P_T3_40, T17 IO_L23P_T3_40, T18 IO_L22P_T3_40, T19 IO_L21N_T3_DQS_40, T20 IO_L21P_T3_DQS_40
part L pins: A8 IO_L7N_T1_42, A9 IO_L10N_T1_42, A10 IO_L10P_T1_42, A12 IO_L8N_T1_42, A13 IO_L8N_T1_41, A14 IO_L10N_T1_41, A15 IO_L10P_T1_41, A16 VCCO_41, A17 IO_L17N_T2_41, B9 IO_L7P_T1_42, B10 IO_L9N_T1_DQS_42, B11 IO_L9P_T1_DQS_42, B12 IO_L8P_T1_42, B13 VCCO_41, B14 IO_L8P_T1_41, B15 IO_L16N_T2_41, B16 IO_L16P_T2_41, B17 IO_L17P_T2_41, C9 IO_L12N_T1_MRCC_42, C10 VCCO_42, C11 IO_L11N_T1_SRCC_42, C12 IO_L11P_T1_SRCC_42, C13 IO_L11N_T1_SRCC_41, C14 IO_L11P_T1_SRCC_41, C16 IO_L18N_T2_41, C17 IO_L18P_T2_41, D9 IO_L12P_T1_MRCC_42, D10 IO_L14N_T2_SRCC_42, D11 IO_L13N_T2_MRCC_42, D13 IO_L9N_T1_DQS_41, D14 IO_L12N_T1_MRCC_41, D15 IO_L12P_T1_MRCC_41, D16 IO_L14N_T2_SRCC_41, D17 VCCO_41, E10 IO_L14P_T2_SRCC_42, E11 IO_L13P_T2_MRCC_42, E12 IO_L15N_T2_DQS_42, E13 IO_L9P_T1_DQS_41, E14 VCCO_41, E15 IO_L13N_T2_MRCC_41, E16 IO_L14P_T2_SRCC_41, E17 IO_L15N_T2_DQS_41, F9 IO_L22N_T3_42, F10 IO_L16N_T2_42, F11 VCCO_42, F12 IO_L15P_T2_DQS_42, F13 IO_L7N_T1_41, F14 IO_L7P_T1_41, F15 IO_L13P_T2_MRCC_41, F17 IO_L15P_T2_DQS_41, G9 IO_L22P_T3_42, G10 IO_L16P_T2_42, G11 IO_L18N_T2_42, G12 IO_L17N_T2_42, G14 IO_L4N_T0_41, G15 IO_L4P_T0_41, G16 IO_L3N_T0_DQS_41, G17 IO_L6N_T0_VREF_41, H9 IO_L24N_T3_42, H11 IO_L18P_T2_42, H12 IO_L17P_T2_42, H13 IO_L19N_T3_VREF_42, H14 IO_L2N_T0_41, H15 VCCO_41, H16 IO_L3P_T0_DQS_41, H17 IO_L6P_T0_41, J9 IO_L24P_T3_42, J10 IO_L20N_T3_42, J11 IO_L23N_T3_42, J12 VCCO_42, J13 IO_L19P_T3_42, J14 IO_L2P_T0_41, J15 IO_L1N_T0_41, J16 IO_L5N_T0_41, K9 VCCO_42, K10 IO_L20P_T3_42, K11 IO_L23P_T3_42, K12 IO_L21N_T3_DQS_42, K13 IO_25_VRP_42, K15 IO_L1P_T0_41, K16 IO_L5P_T0_41, L12 IO_L21P_T3_DQS_42, L13 IO_0_VRN_42, L14 IO_L20N_T3_41, L15 IO_0_VRN_41, L16 VCCO_41, M11 IO_L3N_T0_DQS_42, M12 IO_L5N_T0_42, M13 VCCO_42, M14 IO_L24N_T3_41, M15 IO_L20P_T3_41, M16 IO_L21N_T3_DQS_41, N11 IO_L3P_T0_DQS_42, N12 IO_L5P_T0_42, N13 IO_L1N_T0_42, N14 IO_L24P_T3_41, N16 IO_L21P_T3_DQS_41, P11 IO_L6N_T0_VREF_42, P13 IO_L1P_T0_42, P14 IO_L22N_T3_41, P15 IO_L22P_T3_41, P16 IO_L19N_T3_VREF_41, R11 IO_L6P_T0_42, R12 IO_L4N_T0_42, R13 IO_L2N_T0_42, R14 VCCO_41, R15 IO_L23N_T3_41, R16 IO_L19P_T3_41, T11 VCCO_42, T12 IO_L4P_T0_42, T13 IO_L2P_T0_42, T14 IO_25_VRP_41, T15 IO_L23P_T3_41
part M pins: AP1 MGTXTXN3_113, AP2 MGTXTXP3_113, AP5 MGTXRXN3_113, AP6 MGTXRXP3_113, AR3 MGTXRXN2_113, AR4 MGTXRXP2_113, AR7 MGTREFCLK0N_113, AR8 MGTREFCLK0P_113, AT1 MGTXTXN2_113, AT2 MGTXTXP2_113, AT5 MGTXRXN1_113, AT6 MGTXRXP1_113, AU3 MGTXTXN1_113, AU4 MGTXTXP1_113, AU7 MGTREFCLK1N_113, AU8 MGTREFCLK1P_113, AV1 MGTXTXN0_113, AV2 MGTXTXP0_113, AV5 MGTXRXN0_113, AV6 MGTXRXP0_113, AW3 MGTXRXN3_112, AW4 MGTXRXP3_112, AW7 MGTREFCLK0N_112, AW8 MGTREFCLK0P_112, AY1 MGTXTXN3_112, AY2 MGTXTXP3_112, AY5 MGTXRXN2_112, AY6 MGTXRXP2_112, BA3 MGTXTXN2_112, BA4 MGTXTXP2_112, BA7 MGTREFCLK1N_112, BA8 MGTREFCLK1P_112, BB1 MGTXTXN1_112, BB2 MGTXTXP1_112, BB5 MGTXRXN1_112, BB6 MGTXRXP1_112, BC3 MGTXTXN0_112, BC4 MGTXTXP0_112, BD5 MGTXRXN0_112, BD6 MGTXRXP0_112
part N pins: AD1 MGTXTXN3_115, AD2 MGTXTXP3_115, AD5 MGTXRXN3_115, AD6 MGTXRXP3_115, AE3 MGTXTXN2_115, AE4 MGTXTXP2_115, AE7 MGTXRXN2_115, AE8 MGTXRXP2_115, AF1 MGTXTXN1_115, AF2 MGTXTXP1_115, AF5 MGTXRXN1_115, AF6 MGTXRXP1_115, AG3 MGTXTXN0_115, AG4 MGTXTXP0_115, AG7 MGTREFCLK0N_115, AG8 MGTREFCLK0P_115, AH1 MGTXTXN3_114, AH2 MGTXTXP3_114, AH5 MGTXRXN0_115, AH6 MGTXRXP0_115, AJ3 MGTXRXN3_114, AJ4 MGTXRXP3_114, AJ7 MGTREFCLK1N_115, AJ8 MGTREFCLK1P_115, AK1 MGTXTXN2_114, AK2 MGTXTXP2_114, AK5 MGTXRXN2_114, AK6 MGTXRXP2_114, AL3 MGTXTXN1_114, AL4 MGTXTXP1_114, AL7 MGTREFCLK0N_114, AL8 MGTREFCLK0P_114, AM1 MGTXTXN0_114, AM2 MGTXTXP0_114, AM5 MGTXRXN1_114, AM6 MGTXRXP1_114, AN3 MGTXRXN0_114, AN4 MGTXRXP0_114, AN7 MGTREFCLK1N_114, AN8 MGTREFCLK1P_114
part O pins: AD7 MGTAVCC_G11, AE5 MGTAVTT_G11, AF3 MGTAVTT_G11, AF8 MGTAVCC_G11, AF9 MGTRREF_115, AF10 MGTAVTTRCAL_115, AH8 MGTAVCC_G11, AJ5 MGTAVTT_G11, AK3 MGTAVTT_G11, AK8 MGTAVCC_G11, AM8 MGTVCCAUX_G11, AN5 MGTAVTT_G11, AP3 MGTAVTT_G10, AP8 MGTVCCAUX_G10, AT8 MGTAVCC_G10, AU5 MGTAVTT_G10, AV3 MGTAVTT_G10, AV8 MGTAVCC_G10, AY8 MGTAVCC_G10, BA5 MGTAVTT_G10, BB3 MGTAVTT_G10, BB8 MGTAVCC_G10, BC7 MGTRREF_112, BC8 MGTAVTTRCAL_112
part P pins: AB2 CCLK_0, AB3 INIT_B_0, AB4 TDI_0, AB5 TCK_0, AB6 TMS_0, AB7 TDO_0, AB9 VCCO_0, AB10 PROGRAM_B_0, AB20 VREFN_0, AB21 VP_0, AC8 VCCO_0, AC10 CFGBVS_0, AC20 VN_0, AC21 VREFP_0, AD10 DONE_0, AD20 DXN_0, AD21 DXP_0, AG10 M2_0, AG11 M1_0, AH11 M0_0
part Q pins: A11 GND, A21 GND, A31 GND, A41 GND, AA12 VCCINT, AA14 VCCINT, AA16 VCCAUX_IO_G6, AA18 VCCINT, AA20 GNDADC, AA21 VCCADC, AA22 VCCBRAM, AA24 VCCINT, AA26 VCCAUX_IO_G2, AA28 VCCAUX, AB1 VCCBATT_0, AB11 VCCINT, AB13 VCCINT, AB15 VCCAUX, AB17 VCCAUX_IO_G6, AB19 VCCINT, AB23 VCCINT, AB25 VCCINT, AB27 VCCAUX_IO_G2, AC12 VCCINT, AC14 VCCINT, AC16 VCCAUX_IO_G5, AC18 VCCINT, AC22 VCCBRAM, AC24 VCCINT, AC26 VCCAUX_IO_G1, AC28 VCCAUX, AD11 VCCINT, AD13 VCCINT, AD15 VCCAUX, AD17 VCCAUX_IO_G5, AD19 VCCINT, AD23 VCCINT, AD25 VCCINT, AD27 VCCAUX_IO_G1, AE12 VCCINT, AE14 VCCINT, AE16 VCCAUX_IO_G5, AE18 VCCINT, AE20 VCCINT, AE22 VCCBRAM, AE24 VCCINT, AE26 VCCAUX_IO_G1, AE28 VCCAUX, AF11 VCCINT, AF13 VCCINT, AF15 VCCAUX, AF17 VCCAUX_IO_G4, AF19 VCCINT, AF21 VCCBRAM, AF23 VCCINT, AF25 VCCINT, AF27 VCCAUX_IO_G0, AG12 VCCINT, AG14 VCCINT, AG16 VCCAUX_IO_G4, AG18 VCCINT, AG20 VCCINT, AG22 VCCBRAM, AG24 VCCINT, AG26 VCCAUX_IO_G0, AG28 VCCAUX, AH13 VCCINT, AH15 VCCAUX, AH17 VCCAUX_IO_G4, AH19 VCCINT, AH21 VCCBRAM, AH23 VCCINT, AH25 VCCINT, AH27 VCCAUX_IO_G0, B8 GND, B18 GND, B28 GND, B38 GND, C5 GND, C15 GND, C25 GND, C35 GND, D2 GND, D12 GND, D22 GND, D32 GND, D42 GND, E9 GND, E19 GND, E29 GND, E39 GND, F6 GND, F16 GND, F26 GND, F36 GND, G3 GND, G13 GND, G23 GND, G33 GND, G43 GND, H10 GND, H20 GND, H30 GND, H40 GND, J7 GND, J17 GND, J27 GND, J37 GND, K4 GND, K14 GND, K24 GND, K34 GND, K44 GND, L1 GND, L11 GND, L21 GND, L31 GND, L41 GND, M8 GND, M18 GND, M28 GND, M38 GND, N5 GND, N15 GND, N25 GND, N35 GND, P2 GND, P12 GND, P22 GND, P32 GND, P42 GND, R9 GND, R19 GND, R29 GND, R39 GND, T6 GND, T16 GND, T26 GND, T36 GND, U3 GND, U11 GND, U12 VCCINT, U13 GND, U14 VCCINT, U15 GND, U16 VCCAUX_IO_G7, U17 GND, U18 VCCINT, U19 GND, U20 VCCINT, U21 GND, U22 VCCBRAM, U23 GND, U24 VCCINT, U25 GND, U26 VCCAUX_IO_G3, U27 GND, U28 VCCAUX, U33 GND, U43 GND, V11 VCCINT, V12 GND, V13 VCCINT, V14 GND, V15 VCCAUX, V16 GND, V17 VCCAUX_IO_G7, V18 GND, V19 VCCINT, V20 GND, V21 VCCBRAM, V22 GND, V23 VCCINT, V24 GND, V25 VCCINT, V26 GND, V27 VCCAUX_IO_G3, V28 GND, V30 GND, V40 GND, W7 GND, W11 GND, W12 VCCINT, W13 GND, W14 VCCINT, W15 GND, W16 VCCAUX_IO_G7, W17 GND, W18 VCCINT, W19 GND, W20 VCCINT, W21 GND, W22 VCCBRAM, W23 GND, W24 VCCINT, W26 VCCAUX_IO_G3, W28 VCCAUX, Y11 VCCINT, Y13 VCCINT, Y15 VCCAUX, Y17 VCCAUX_IO_G6, Y19 VCCINT, Y21 VCCBRAM, Y23 VCCINT, Y25 VCCINT, Y27 VCCAUX_IO_G2
part R pins: AA1 GND, AA11 GND, AA13 GND, AA15 GND, AA17 GND, AA19 GND, AA23 GND, AA25 GND, AA27 GND, AA31 GND, AA41 GND, AB8 GND, AB12 GND, AB14 GND, AB16 GND, AB18 GND, AB22 GND, AB24 GND, AB26 GND, AB38 GND, AC1 GND, AC2 GND, AC3 GND, AC4 GND, AC5 GND, AC6 GND, AC7 GND, AC9 GND, AC11 GND, AC13 GND, AC15 GND, AC17 GND, AC19 GND, AC23 GND, AC25 GND, AC27 GND, AC35 GND, AD3 GND, AD4 GND, AD8 GND, AD9 GND, AD12 GND, AD14 GND, AD16 GND, AD18 GND, AD22 GND, AD24 GND, AD26 GND, AD28 GND, AD32 GND, AD42 GND, AE1 GND, AE2 GND, AE6 GND, AE9 GND, AE10 GND, AE11 GND, AE13 GND, AE15 GND, AE17 GND, AE19 GND, AE21 GND, AE23 GND, AE25 GND, AE27 GND, AE29 GND, AE39 GND, AF4 GND, AF7 GND, AF12 GND, AF14 GND, AF16 GND, AF18 GND, AF20 GND, AF22 GND, AF24 GND, AF26 GND, AF28 GND, AF36 GND, AG1 GND, AG2 GND, AG5 GND, AG6 GND, AG9 GND, AG13 GND, AG15 GND, AG17 GND, AG19 GND, AG21 GND, AG23 GND, AG25 GND, AG27 GND, AG33 GND, AG43 GND, AH3 GND, AH4 GND, AH7 GND, AH9 GND, AH10 GND, AH12 GND, AH14 GND, AH16 GND, AH18 GND, AH20 GND, AH22 GND, AH24 GND, AH26 GND, AH30 GND, AH40 GND, AJ1 GND, AJ2 GND, AJ6 GND, AJ9 GND, AJ17 GND, AJ27 GND, AJ37 GND, AK4 GND, AK7 GND, AK9 GND, AK14 GND, AK24 GND, AK34 GND, AK44 GND, AL1 GND, AL2 GND, AL5 GND, AL6 GND, AL9 GND, AL11 GND, AL21 GND, AL31 GND, AL41 GND, AM3 GND, AM4 GND, AM7 GND, AM9 GND, AM18 GND, AM28 GND, AM38 GND, AN1 GND, AN2 GND, AN6 GND, AN9 GND, AN15 GND, AN25 GND, AN35 GND, AP4 GND, AP7 GND, AP9 GND, AP12 GND, AP22 GND, AP32 GND, AP42 GND, AR1 GND, AR2 GND, AR5 GND, AR6 GND, AR9 GND, AR19 GND, AR29 GND, AR39 GND, AT3 GND, AT4 GND, AT7 GND, AT9 GND, AT16 GND, AT26 GND, AT36 GND, AU1 GND, AU2 GND, AU6 GND, AU9 GND, AU13 GND, AU23 GND, AU33 GND, AU43 GND, AV4 GND, AV7 GND, AV9 GND, AV10 GND, AV20 GND, AV30 GND, AV40 GND, AW1 GND, AW2 GND, AW5 GND, AW6 GND, AW9 GND, AW17 GND, AW27 GND, AW37 GND, AY3 GND, AY4 GND, AY7 GND, AY9 GND, AY14 GND, AY24 GND, AY34 GND, AY44 GND, BA1 GND, BA2 GND, BA6 GND, BA9 GND, BA11 GND, BA21 GND, BA31 GND, BA41 GND, BB4 GND, BB7 GND, BB9 GND, BB18 GND, BB28 GND, BB38 GND, BC2 GND, BC5 GND, BC6 GND, BC9 GND, BC15 GND, BC25 GND, BC35 GND, BD3 GND, BD4 GND, BD7 GND, BD8 GND, BD9 GND, BD12 GND, BD22 GND, BD32 GND, BD42 GND, W25 GND, W27 GND, W37 GND, Y4 GND, Y12 GND, Y14 GND, Y16 GND, Y18 GND, Y20 GND, Y22 GND, Y24 GND, Y26 GND, Y28 GND, Y34 GND, Y44 GND

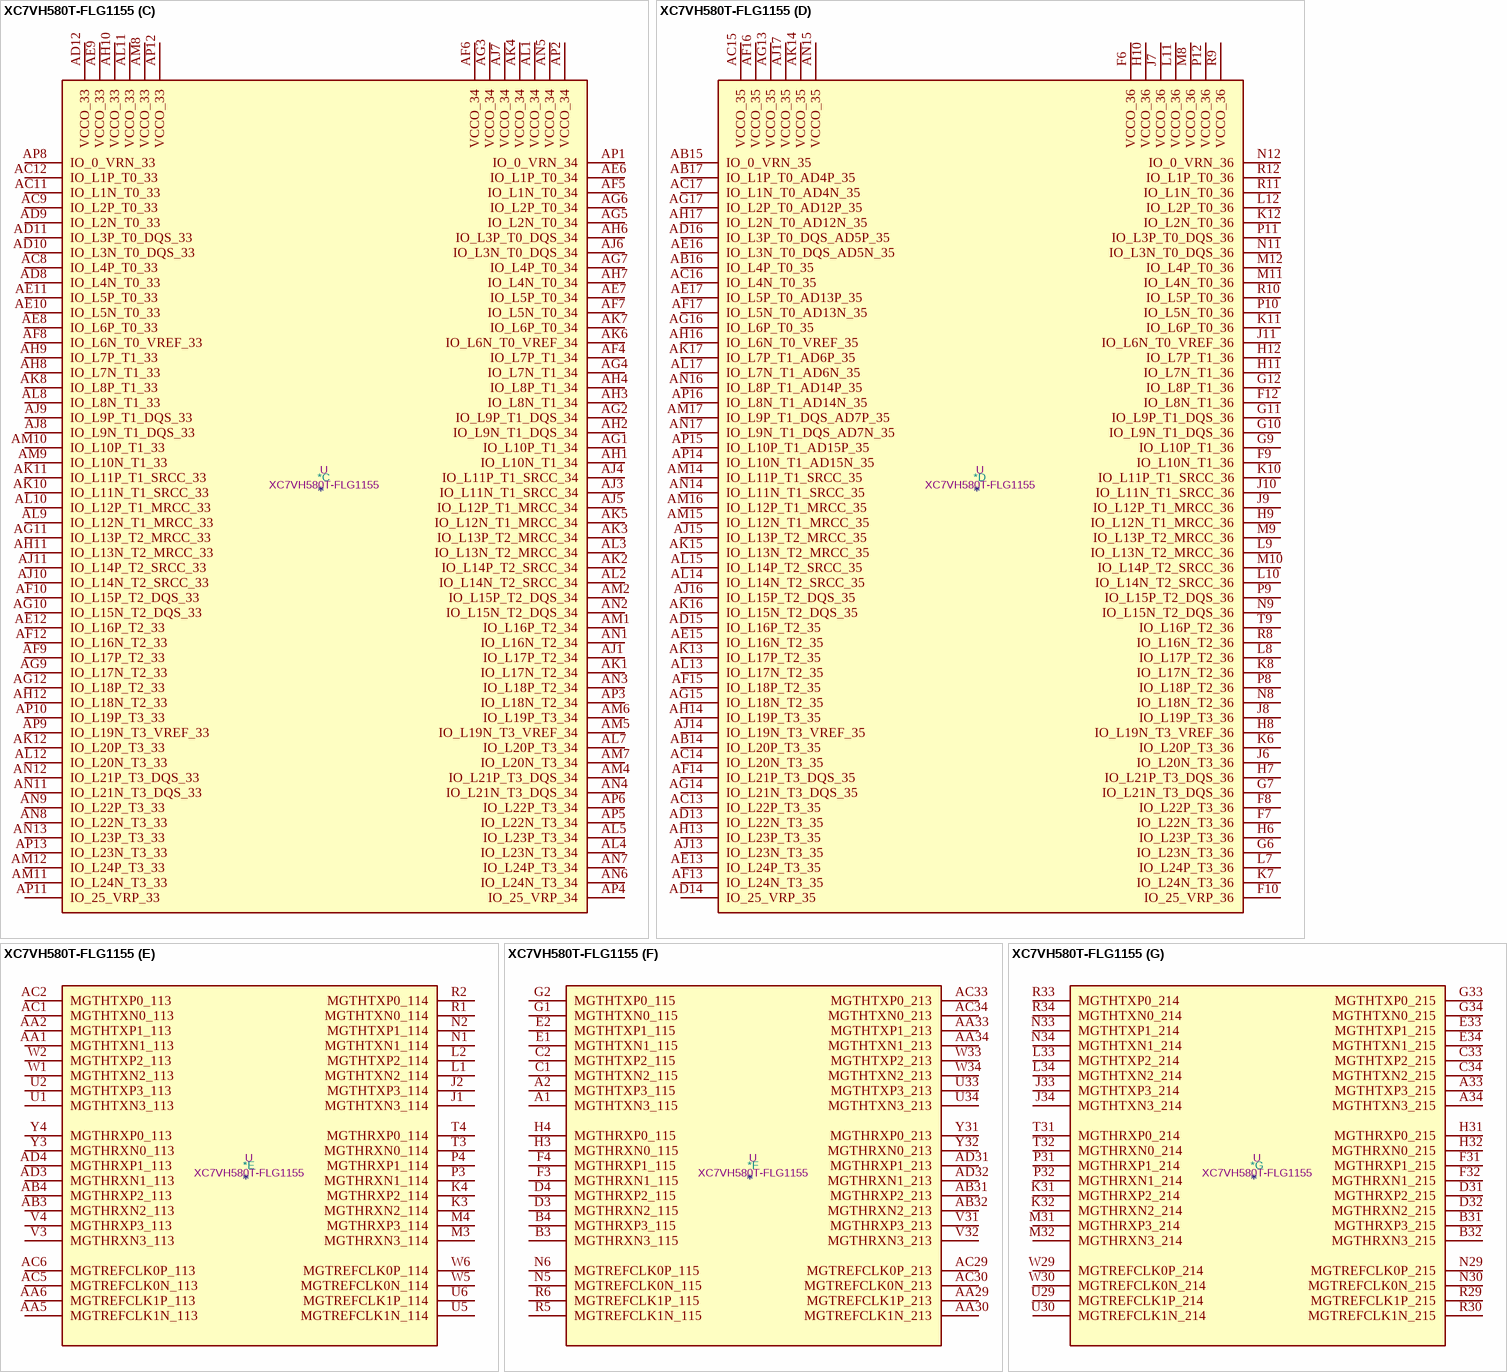
[diagram p24: symbol XC7VH580T-FLG1155]

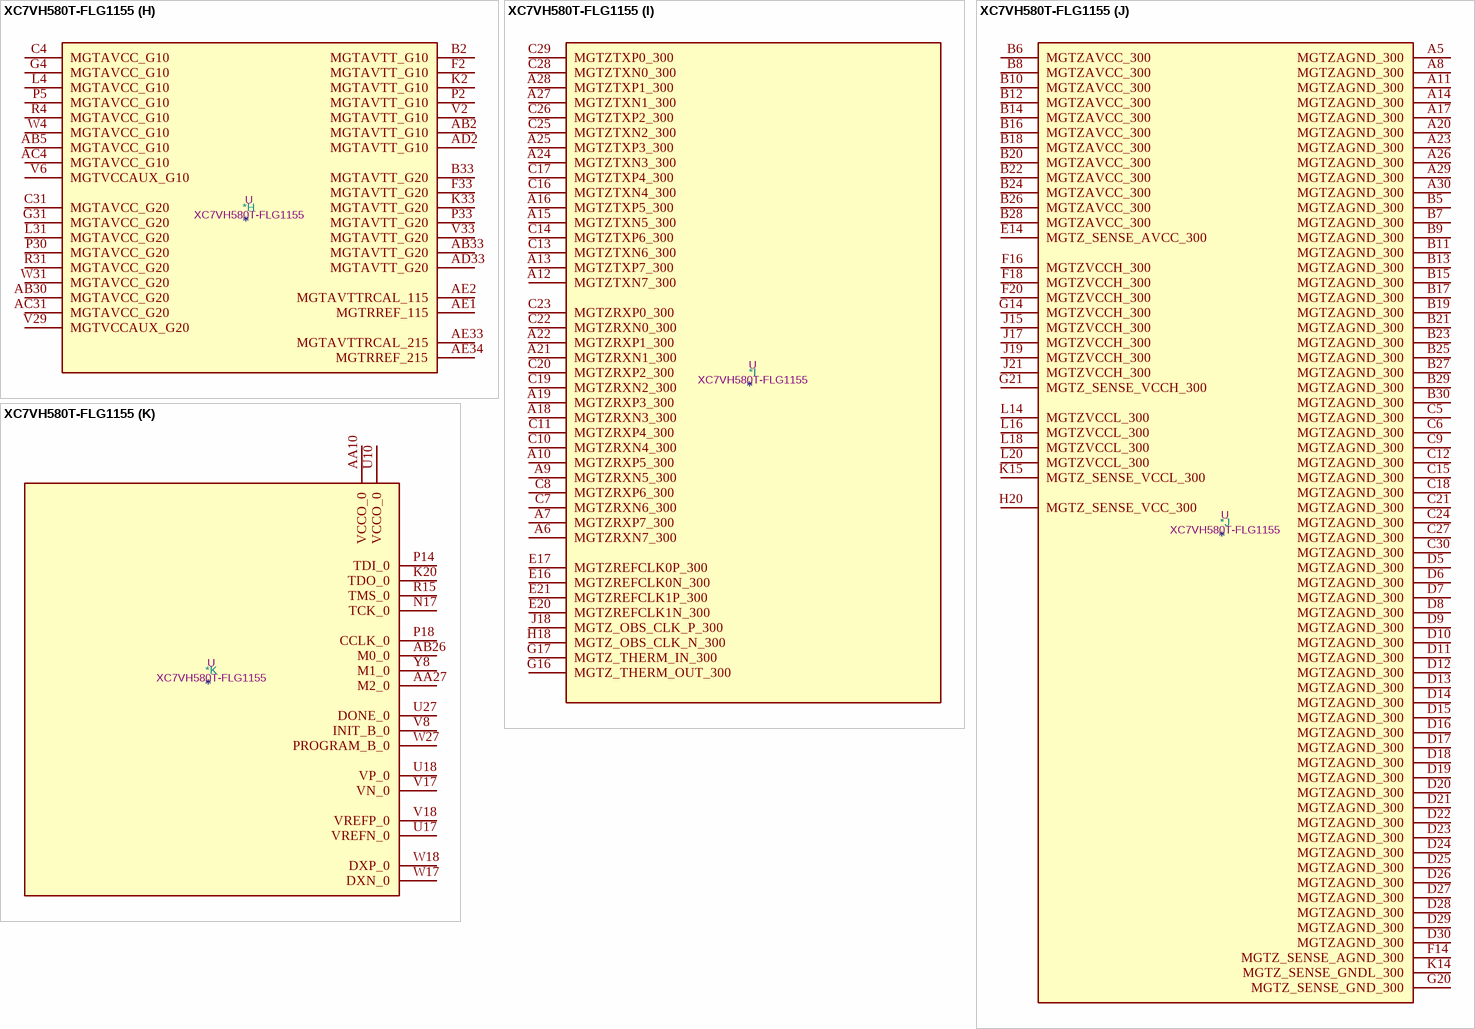
[diagram p25: symbol XC7VH580T-FLG1155]

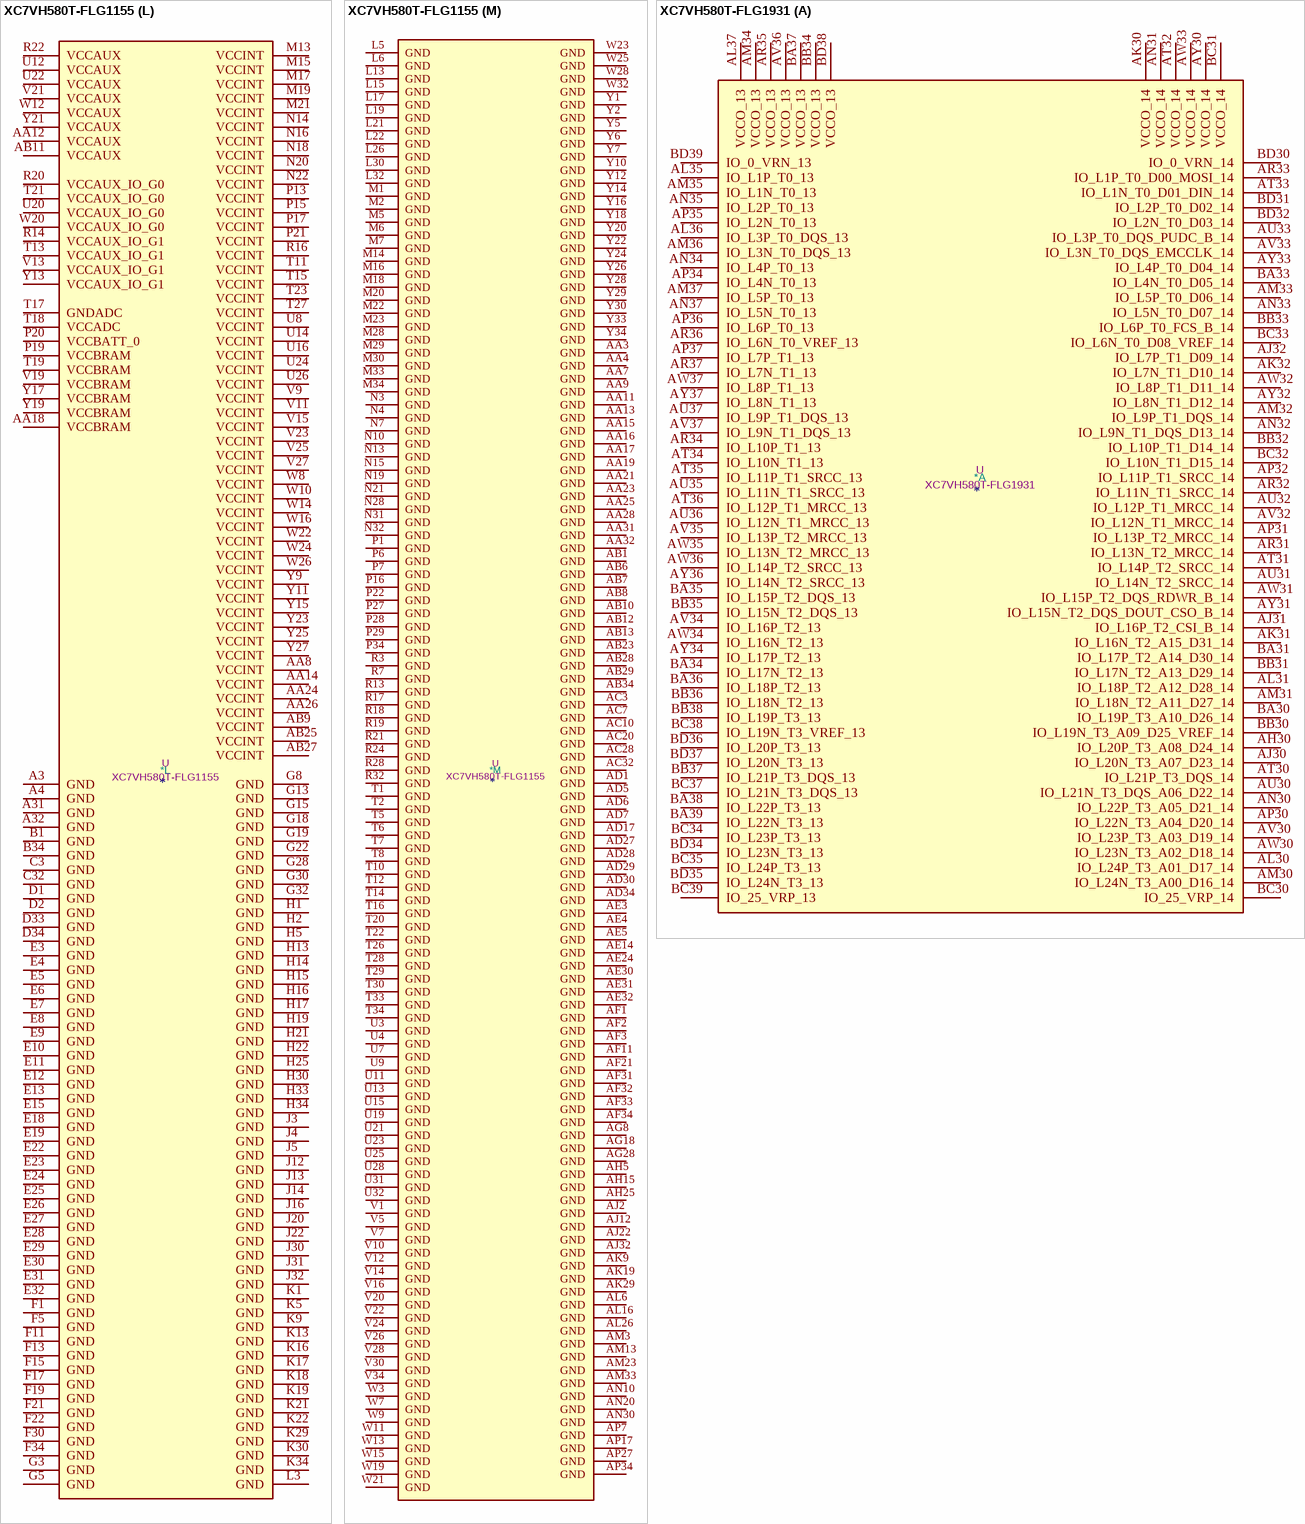
[diagram p26: symbols XC7VH580T-FLG1155 to XC7VH580T-FLG1931]